# Altium footprint library CNC Tech_3221-10-0300-00.PcbLib: 1 footprints
Each footprint in its own frame and in the unit in brackets; x right, y up, seen from the top. Pads: shape width x height; smd on the part's side, far side on the other; paste and mask are expansions set on the pad; w line width, h text height; cw(c..) or ccw(c..) is an arc to the next point about the centre after c.
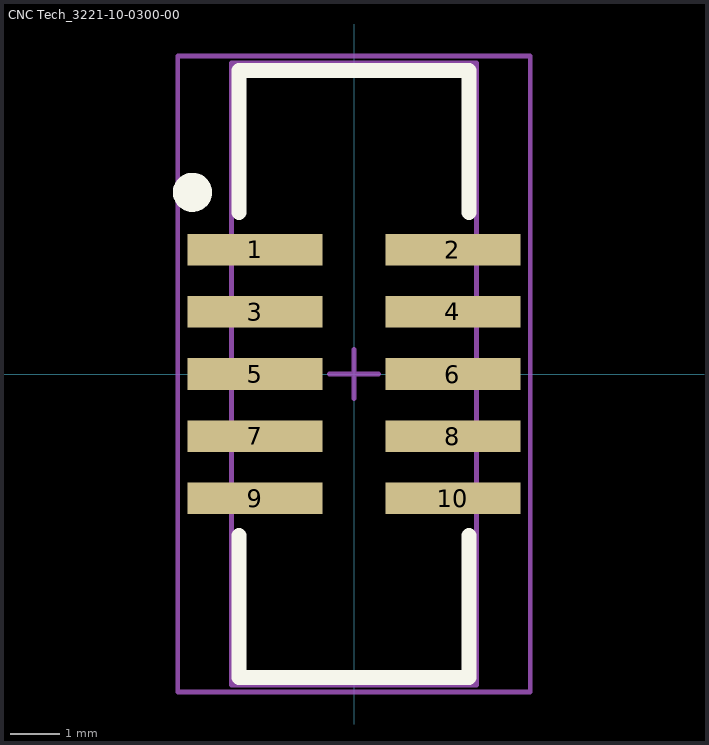
[diagram p0: the footprint, top view; thin cyan lines are the x and y axes]

## CNC Tech_3221-10-0300-00 [mm] "CNC Tech_3221-10-0300-00"
height 5.55
pads (10):
  rect 2.76x0.65 smd mask+0.05: 1(-2.02,2.54) 2(2.02,2.54) 3(-2.02,1.27) 4(2.02,1.27) 5(-2.02,0) 6(2.02,0) 7(-2.02,-1.27) 8(2.02,-1.27) 9(-2.02,-2.54) 10(2.02,-2.54)
Top Overlay:
  circle w0.4: c-3.3,3.71 r0.2
  lines w0.3: -2.35,-3.3 -2.35,-6.2 2.35,-6.2 2.35,-3.3 ; -2.35,3.3 -2.35,6.2 2.35,6.2 2.35,3.3
Mechanical 13:
  lines w0.1: -2.5,-6.35 -2.5,6.35 2.5,6.35 2.5,-6.35 -2.5,-6.35
Mechanical 15:
  lines w0.1: -0.5,0 0.5,0 ; 0,-0.5 0,0.5 ; -3.6,-6.5 -3.6,6.5 3.6,6.5 3.6,-6.5 -3.6,-6.5
3D body: height 5.55, standoff 0, extent -2.5,-6.35 2.5,6.35